# Altium schematic symbol library SCH - POWER - SWITCHMODE - TI TPS62351_DRC_10.SchLib: 1 symbol
Pins are listed as number, name and electrical type; pins without a type are passive.

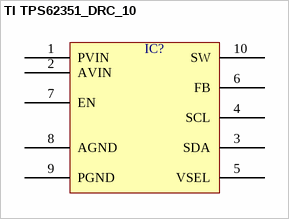
[diagram p0: symbol TI TPS62351_DRC_10]

## TI TPS62351_DRC_10
designator IC?  (value not drawn)
pins: 1 PVIN, 2 AVIN, 3 SDA, 4 SCL, 5 VSEL, 6 FB, 7 EN, 8 AGND, 9 PGND, 10 SW